# Altium schematic symbol library Connectors.SchLib: 3 symbols
Pins are listed as number, name and electrical type; pins without a type are passive.

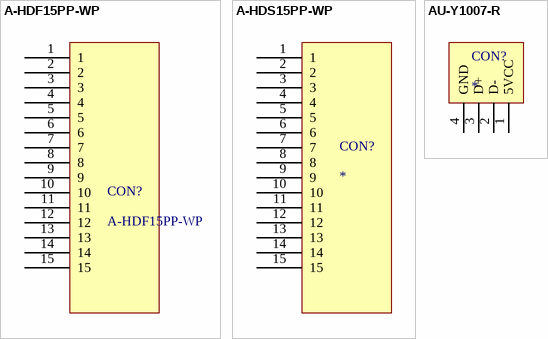
[diagram p0: symbols A-HDF15PP-WP to AU-Y1007-R]

## A-HDF15PP-WP
designator CON?
CONN DSUB IP67 FMAL HD PCB 15POS; Digikey Part Number: AE10115-ND
footprint D-SUB15 Female
pins: 1, 2, 3, 4, 5, 6, 7, 8, 9, 10, 11, 12, 13, 14, 15

## A-HDS15PP-WP
designator CON?
CONN DSUB IP67 MALE HD PCB 15POS; Digikey Part Number: AE10118-ND
footprint D-SUB15 Male
pins: 1, 2, 3, 4, 5, 6, 7, 8, 9, 10, 11, 12, 13, 14, 15

## AU-Y1007-R
designator CON?
CONN USB RTANG FEMALE TYPE B PCB; Digikey Part Number: AE9925-ND
footprint USB - Type B (Through Hole, Right Angle, Horizontal)
pins: 1 5VCC, 2 D-, 3 D+, 4 GND